# EAGLE library part MLX91210 (library common)
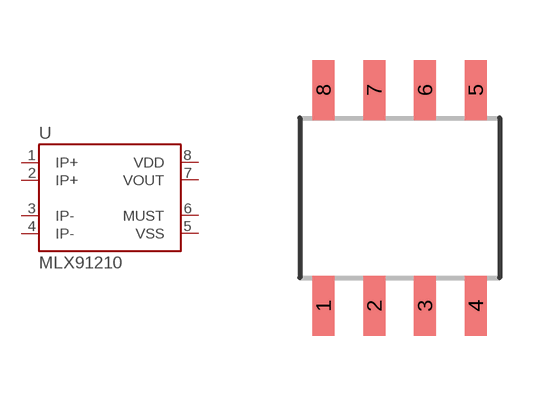
[diagram p41: symbol with the pads of SOIC-8; footprint SOIC-8]

Designator prefix U

## MLX91210  [SOIC-8]
1  IP+
2  IP+
3  IP-
4  IP-
5  VSS
6  MUST
7  VOUT
8  VDD

## Footprint SOIC-8 (pad centres in mm)
smd 0.55 x 1.5: 1 -1.905,-2.7; 2 -0.635,-2.7; 3 0.635,-2.7; 4 1.905,-2.7; 5 1.905,2.7; 6 0.635,2.7; 7 -0.635,2.7; 8 -1.905,2.7